# Altium footprint library Sensor.PcbLib: 8 footprints
Each footprint in its own frame and in the unit in brackets; x right, y up, seen from the top. Pads: shape width x height; smd on the part's side, far side on the other; paste and mask are expansions set on the pad; w line width, h text height; cw(c..) or ccw(c..) is an arc to the next point about the centre after c.
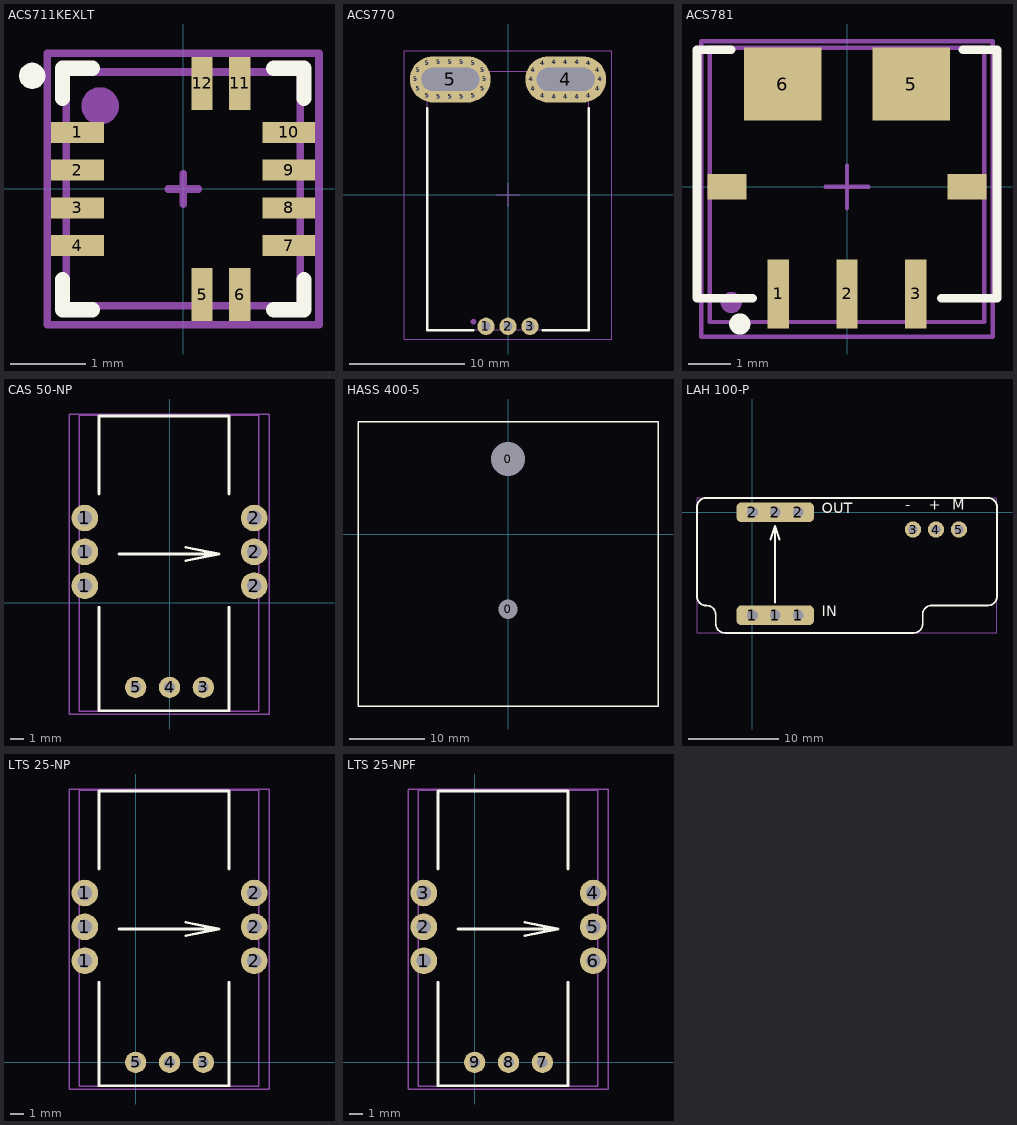
[diagram p0: the footprints below, top view; thin cyan lines are the x and y axes]

## ACS711KEXLT [mm]
pads (14):
  rect 0.7x0.28 smd: 1(-1.4,0.75) 2(-1.4,0.25) 3(-1.4,-0.25) 4(-1.4,-0.75) 7(1.4,-0.75) 8(1.4,-0.25) 9(1.4,0.25) 10(1.4,0.75)
  rect 0.28x0.7 smd: 5(0.25,-1.4) 6(0.75,-1.4) 11(0.75,1.4) 12(0.25,1.4)
  round 0.35 on Top Overlay: ""(-2,1.5)
  round 0.5 on Mech1: ""(-1.1,1.1)
Top Overlay:
  lines w0.2: -1.6,-1.2 -1.6,-1.6 -1.2,-1.6 ; -1.6,1.2 -1.6,1.6 -1.2,1.6 ; 1.2,-1.6 1.6,-1.6 1.6,-1.2 ; 1.2,1.6 1.6,1.6 1.6,1.2
Mechanical 1:
  lines w0.1: -1.55,-1.55 1.55,-1.55 1.55,1.55 -1.55,1.55 -1.55,-1.55
Mechanical 15:
  lines w0.1: -0.2,0 0.2,0 ; 0,-0.2 0,0.2 ; -1.8,-1.8 -1.8,1.8 1.8,1.8 1.8,-1.8 -1.8,-1.8
3D body "User Library-QFN-16.STEP": height 0.9, standoff 0, extent -1.501,-1.501 1.501,1.501

## ACS770 [mm]
pads (38):
  round 1.5 hole 0.8: 1(-1.91,-11.4) 2(0,-11.4) 3(1.91,-11.4)
  round 0.5 on Mech1: 4(-3,-11)
  round 0.7 hole 0.3: 4(2,10) 4(2.2,9.2) 4(2.2,10.8) 4(3,8.6) 4(3,11.4) 4(4,8.5) 4(4,11.5) 4(5,8.5) 4(5,11.5) 4(6,8.5) 4(6,11.5) 4(7,8.6) 4(7,11.4) 4(7.8,9.2) 4(7.8,10.8) 4(8,10) 5(-8,10) 5(-7.8,9.2) 5(-7.8,10.8) 5(-7,8.6) 5(-7,11.4) 5(-6,8.5) 5(-6,11.5) 5(-5,8.5) 5(-5,11.5) 5(-4,8.5) 5(-4,11.5) 5(-3,8.6) 5(-3,11.4) 5(-2.2,9.2) 5(-2.2,10.8) 5(-2,10)
  oval 7x4 hole 2 slot 5 at 0 deg: 4(5,10) 5(-5,10)
Top Overlay:
  lines w0.2: -7,7.5 -7,-11.75 -3,-11.75 ; 3,-11.75 7,-11.75 7,7.5
Mechanical 1:
  lines w0.1: -7,-11.705 7,-11.705 7,10.705 -7,10.705 -7,-11.705
Mechanical 15:
  lines w0.1: -1,0 1,0 ; 0,-1 0,1 ; -9,-12.5 9,-12.5 ; -9,-12.5 9,-12.5 ; -9,-12.5 -9,12.5 9,12.5 9,-12.5
3D body "User Library-ACS758xCB-PFF.STEP": height 7.5, standoff -2.98, extent -7,-11.705 7,10.705

## ACS781 [mm]
pads (9):
  rect 0.5x1.6 smd: 1(-1.6,-2.5) 2(0,-2.5) 3(1.6,-2.5)
  rect 1.8x1.7 smd: 5(1.5,2.4) 6(-1.5,2.4)
  rect 0.9x0.6 smd: ""(-2.8,0) ""(2.8,0)
  round 0.5 on Mech1: ""(-2.7,-2.7)
  round 0.5 on Top Overlay: ""(-2.5,-3.2)
Top Overlay:
  lines w0.2: -2.7,3.2 -3.5,3.2 -3.5,-2.6 -2.2,-2.6 ; 2.2,-2.6 3.5,-2.6 3.5,3.2 2.7,3.2
Mechanical 1:
  lines w0.1: -3.2,-3.154 3.2,-3.154 3.2,3.246 -3.2,3.246 -3.2,-3.154
Mechanical 15:
  lines w0.1: -0.5,0 0.5,0 ; 0,-0.5 0,0.5 ; -3.4,-3.5 -3.4,3.4 3.4,3.4 3.4,-3.5 -3.4,-3.5
3D body "User Library-7-Pin PSOF Package.STEP": height 1.46, standoff -0.02, extent -3.2,-3.154 3.2,3.246

## CAS 50-NP [mm]
pads (9):
  round 2 hole 1.1: 1(-6.35,1.27) 1(-6.35,3.81) 1(-6.35,6.35) 2(6.35,1.27) 2(6.35,3.81) 2(6.35,6.35)
  round 1.6 hole 0.8: 3(2.54,-6.35) 4(0,-6.35) 5(-2.54,-6.35)
Top Overlay:
  lines w0.2: -5.29,-0.35 -5.29,-8.1 4.46,-8.1 4.46,-0.35 ; -5.29,8.15 -5.29,14 4.46,14 4.46,8.15 ; -3.79,3.65 3.71,3.65 ; 1.21,3.15 3.71,3.65 ; 1.21,4.15 3.71,3.65
Mechanical 1:
  lines w0.1: -6.79,-8.15 6.71,-8.15 6.71,14.05 -6.79,14.05 -6.79,-8.15
Mechanical 15:
  lines w0.1: -7.54,-8.35 7.46,-8.35 7.46,14.15 -7.54,14.15 -7.54,-8.35
3D body "CAS 6-15-25-50-NP Blackbox.stp": height 16.6, standoff -3.4, extent -6.85,-7.874 6.85,14.036

## HASS 400-5 [mm]
pads (2):
  round 2 hole 2.6 unplated: 0(0,-10)
  round 2 hole 4.5 unplated: 0(0,10)
Top Overlay:
  lines w0.2: -20,-23 -20,15 20,15 20,-23 -20,-23
3D body "HASS_XXX-P.stp": height 30.01, standoff -2.99, extent -20,-23.25 20,15.05

## LAH 100-P [mm]
pads (9):
  rrect50% 3.5x2.2 hole 1.2 square: 1(0,-11.4) 1(2.54,-11.4) 1(5.08,-11.4) 2(0,0) 2(2.54,0) 2(5.08,0)
  round 1.8 hole 1: 3(17.78,-1.905) 4(20.32,-1.905) 5(22.86,-1.905)
Top Overlay:
  lines w0.2: -6.125,0.595 cw(c-5.125,0.595) -5.125,1.595 26.075,1.595 cw(c26.075,0.595) 27.075,0.595 27.075,-9.302 ; -6.125,0.6 -6.125,-9.325 ccw(c-5.125,-9.325) -5.125,-10.325 -5.05,-10.325 cw(c-5.05,-11.325) -4.05,-11.325 -4.05,-12.345 ccw(c-3.05,-12.345) -3.05,-13.345 17.85,-13.345 ccw(c17.85,-12.345) 18.85,-12.345 18.85,-11.3 cw(c19.85,-11.3) 19.85,-10.3 26.075,-10.3 ccw(c26.075,-9.3) 27.075,-9.3 ; 2,-3 2.5,-1.5 ; 2.5,-10 2.5,-1.5 ; 3,-3 2.5,-1.5
  text "M" at 22.1,-0.1 h2
  text "+" at 19.5,-0.1 h2
  text "-" at 16.9,-0.1 h2
  text "OUT" at 7.7,-0.5 h2
  text "IN" at 7.7,-11.9 h2
Mechanical 1:
  lines w0.1: -6.125,-13.345 27.075,-13.345 27.075,1.595 -6.125,1.595 -6.125,-13.345
Mechanical 15:
  lines w0.1: -6.125,-13.345 27.075,-13.345 27.075,1.595 -6.125,1.595 -6.125,-13.345
3D body "TransCurrent v4.step": height 20.15, standoff -4.45, extent -6.125,-13.345 27.075,1.595

## LTS 25-NP [mm]
pads (9):
  round 2 hole 1.1: 1(-3.81,7.62) 1(-3.81,10.16) 1(-3.81,12.7) 2(8.89,7.62) 2(8.89,10.16) 2(8.89,12.7)
  round 1.6 hole 0.8: 3(5.08,0) 4(2.54,0) 5(0,0)
Top Overlay:
  lines w0.2: -2.75,6 -2.75,-1.75 7,-1.75 7,6 ; -2.75,14.5 -2.75,20.35 7,20.35 7,14.5 ; -1.25,10 6.25,10 ; 3.75,9.5 6.25,10 ; 3.75,10.5 6.25,10
Mechanical 1:
  lines w0.1: -4.25,-1.8 9.25,-1.8 9.25,20.4 -4.25,20.4 -4.25,-1.8
Mechanical 15:
  lines w0.1: -5,-2 10,-2 10,20.5 -5,20.5 -5,-2
3D body "User Library-LTS6_NP.STEP": height 24, standoff -3.5, extent -4.25,-1.8 9.25,20.4

## LTS 25-NPF [mm]
pads (9):
  round 2 hole 1.1: 1(-3.81,7.62) 2(-3.81,10.16) 3(-3.81,12.7) 4(8.89,12.7) 5(8.89,10.16) 6(8.89,7.62)
  round 1.6 hole 0.8: 7(5.08,0) 8(2.54,0) 9(0,0)
Top Overlay:
  lines w0.2: -2.75,6 -2.75,-1.75 7,-1.75 7,6 ; -2.75,14.5 -2.75,20.35 7,20.35 7,14.5 ; -1.25,10 6.25,10 ; 3.75,9.5 6.25,10 ; 3.75,10.5 6.25,10
Mechanical 1:
  lines w0.1: -4.25,-1.8 9.25,-1.8 9.25,20.4 -4.25,20.4 -4.25,-1.8
Mechanical 15:
  lines w0.1: -5,-2 10,-2 10,20.5 -5,20.5 -5,-2
3D body "User Library-LTS6_NP.STEP": height 24, standoff -3.5, extent -4.25,-1.8 9.25,20.4